# Altium schematic symbol library Expander.SCHLIB: 6 symbols
Pins are listed as number, name and electrical type; pins without a type are passive.

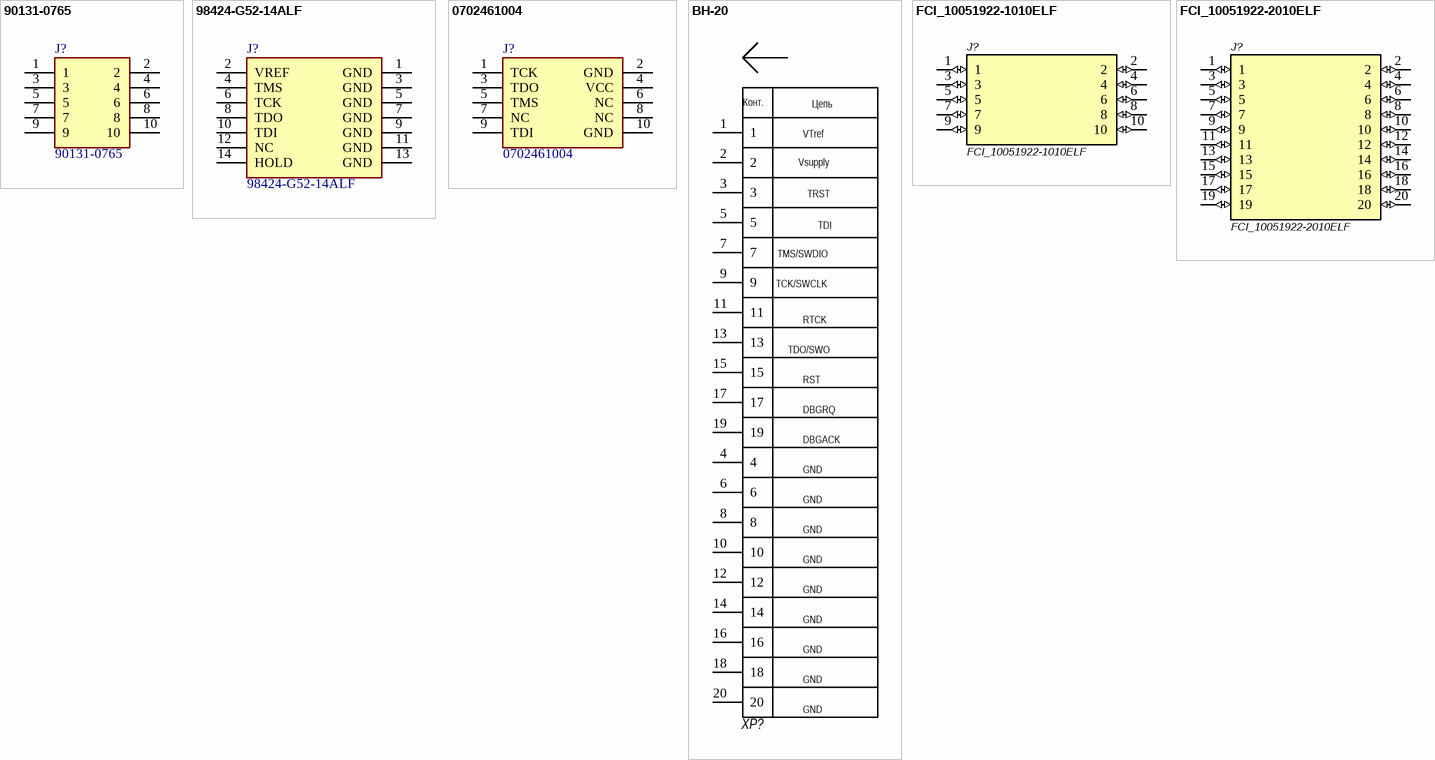
[diagram p0: symbols 90131-0765 to FCI_10051922-2010ELF]

## 90131-0765
designator J?
Connector; Manufacturer_Name: Molex; Allied_Number: 70372850; Datasheet Link: http://www.molex.com/molex/products/datasheet.jsp?part=active/0901310765_PCB_HEADERS.xml; Height: 5.6mm; Manufacturer_Part_Number: 90131-0765; Mouser Part Number: 538-90131-0765; Mouser Price/Stock: https://www.mouser.com/Search/Refine.aspx?Keyword=538-90131-0765; RS Part Number: 3606471P; RS Price/Stock: http://uk.rs-online.com/web/p/products/3606471P; Allied Price/Stock: https://www.alliedelec.com/molex-incorporated-90131-0765/70372850/
footprint HDRV10W90P254_2X5_1260X500X560P
pins: 1, 2, 3, 4, 5, 6, 7, 8, 9, 10

## 98424-G52-14ALF
designator J?
Connector; Manufacturer_Name: Amphenol; Allied_Number: 70236917; Datasheet Link: https://cdn.amphenol-icc.com/media/wysiwyg/files/drawing/98424.pdf; Height: 7mm; Manufacturer_Part_Number: 98424-G52-14ALF; Mouser Part Number: 649-98424-G52-14ALF; Mouser Price/Stock: https://www.mouser.com/Search/Refine.aspx?Keyword=649-98424-G52-14ALF; RS Part Number: 1822960; RS Price/Stock: http://uk.rs-online.com/web/p/products/1822960; Allied Price/Stock: https://www.alliedelec.com/amphenolicc-98424-g52-14alf/70236917/
footprint 98424G5214ALF
pins: 1 GND, 2 VREF, 3 GND, 4 TMS, 5 GND, 6 TCK, 7 GND, 8 TDO, 9 GND, 10 TDI, 11 GND, 12 NC, 13 GND, 14 HOLD

## 0702461004
designator J?
Connector; Manufacturer_Name: Molex; Description: 2.54mm Pitch C-Grid Header; Datasheet Link: http://www.molex.com/pdm_docs/sd/702461004_sd.pdf; Height: 9.47mm; Manufacturer_Part_Number: 0702461004; Mouser Part Number: N/A; Mouser Price/Stock: https://www.mouser.com/Search/Refine.aspx?Keyword=N%2FA
footprint SHDR10W99P254_2X5_2032X889X947P
pins: 1 TCK, 2 GND, 3 TDO, 4 VCC, 5 TMS, 6 NC, 7 NC, 8 NC, 9 TDI, 10 GND

## BH-20
designator XP?  (value not drawn)
JTAG; Группа: Разъём; Производитель: *; Аналоги: *; Корпус: *; Value: BH-20
footprint BH-20
pins: 1, 2, 3, 4, 5, 6, 7, 8, 9, 10, 11, 12, 13, 14, 15, 16, 17, 18, 19, 20
text: Конт.; Цепь; VTref; Vsupply; TRST; TDI; TMS/SWDIO; TCK/SWCLK; RTCK; TDO/SWO; RST; DBGRQ; DBGACK; GND

## FCI_10051922-1010ELF
designator J?
0.50mm FFC/FPC Connectors 10CKT RA SMT ZIF CON BOTTOM CONTACT; Manufacturer 1: Amphenol FCI; Actuator Material: Nylon,Glass,Polyamide; Number of Contacts: 10; Contact Resistance: 30mR; Current Rating: 500mA; Voltage Rating: 50V; Insulation Resistance: 100MR; Gender: Female; Pitch: 0.5mm; Supplier 1: Digi-Key; Manufacturer Part Number 1: 10051922-1010ELF; Stock 1: 3851; Pricing 1: 1=0,85000, 10=0,74400, 25=0,70080, 50=0,67140, 100=0,64230, 250=0,58388, 500=0,52550, 1000=0,46710 (USD); RoHS: Yes; Mount: Surface Mount; Contact Material: Copper Alloy,Bronze; Contact Plating: Gold; Housing Color: Natural; Housing Material: Polymer; Min Operating Temperature: -55°C; Max Operating Temperature: 85°C; Number of Rows: 1; Termination: Solder; Orientation: Right Angle; Packaging: Tape and Reel; Package Quantity: 4500; Number of Positions: 10; Contact Location: Bottom; Max Voltage Rating (AC): 50V; Max Voltage Rating (DC): 50V; Length: 7.5mm; Depth: 3.4mm; Width: 3.4mm; Radiation Hardening: No; REACH SVHC: No SVHC; Lead Free: Lead Free; Flammability Rating: UL94 V-0; ComponentLink1URL: https://datasheet.ciiva.com/1437/10051922-1437495.pdf?src-supplier=Element14; ComponentLink1Description: https://datasheet.ciiva.com/1437/10051922-1437495.pdf?src-supplier=Element14; ComponentLink2URL: https://datasheet.ciiva.com/15176/getdatasheetpartid-131484-15176375.pdf?src-supplier=Verical; ComponentLink2Description: https://datasheet.ciiva.com/15176/getdatasheetpartid-131484-15176375.pdf?src-supplier=Verical; ComponentLink3URL: https://datasheet.ciiva.com/670/10051922-670057.pdf?src-supplier=Digi-Key; ComponentLink3Description: https://datasheet.ciiva.com/670/10051922-670057.pdf?src-supplier=Digi-Key; ComponentLink4URL: https://datasheet.ciiva.com/670/10051922-670058.pdf?src-supplier=Digi-Key; ComponentLink4Description: https://datasheet.ciiva.com/670/10051922-670058.pdf?src-supplier=Digi-Key; ComponentLink5URL: https://datasheet.ciiva.com/5136/fcicmd-catcustomerdrawingproductname-10051922-1010elf-5136554.pdf?src-supplier=Mouser; ComponentLink5Description: https://datasheet.ciiva.com/5136/fcicmd-catcustomerdrawingproductname-10051922-1010elf-5136554.pdf?src-supplier=Mouser; ComponentLink6URL: https://datasheet.ciiva.com/670/10051922-670059.pdf?src-supplier=Digi-Key; ComponentLink6Description: https://datasheet.ciiva.com/670/10051922-670059.pdf?src-supplier=Digi-Key; ComponentLink7URL: https://datasheet.ciiva.com/10367/10051922-10367679.pdf?src-supplier=Avnet; ComponentLink7Description: https://datasheet.ciiva.com/10367/10051922-10367679.pdf?src-supplier=Avnet; Supplier 2: Mouser; Manufacturer 2: Amphenol FCI; Manufacturer Part Number 2: 10051922-1010ELF; Stock 2: 5616; Pricing 2: 1=0,85000, 10=0,67200, 50=0,67200, 100=0,64300, 250=0,58400, 500=0,52600, 1000=0,46800, 2500=0,40300, 4500=0,38500, 9000=0,34600, 10000=0,34600 (USD); Supplier Part Number 1: 609-1234-1-ND; Supplier Part Number 2: 649-10051922-1010ELF
footprint *FCI_10051922-1010ELF (Footprint not found)
pins: 1 (io), 2 (io), 3 (io), 4 (io), 5 (io), 6 (io), 7 (io), 8 (io), 9 (io), 10 (io)

## FCI_10051922-2010ELF
designator J?
0.50mm FFC/FPC Connectors 20CKT RA SMT ZIF CON BOTTOM CONTACT; Manufacturer 1: Amphenol FCI; Actuator Material: Nylon,Glass,Polyamide; Number of Contacts: 20; Contact Resistance: 30mR; Current Rating: 500mA; Voltage Rating: 50V; Insulation Resistance: 100MR; Pitch: 0.5mm; Supplier 1: Digi-Key; Manufacturer Part Number 1: 10051922-2010ELF; Stock 1: 913; Pricing 1: 1=0,73000, 10=0,64500, 25=0,60760, 50=0,58220, 100=0,55680, 250=0,50624, 500=0,45560, 1000=0,40498 (USD); RoHS: Yes; Mount: Surface Mount; Contact Material: Copper Alloy,Bronze,Copper; Contact Plating: Gold; Housing Color: Natural; Housing Material: Polymer; Min Operating Temperature: -55°C; Max Operating Temperature: 85°C; Number of Rows: 1; Termination: Solder; Orientation: Right Angle; Packaging: Tape and Reel; Package Quantity: 4500; Number of Positions: 20; Contact Location: Bottom; Max Voltage Rating (AC): 50V; Max Voltage Rating (DC): 50V; Length: 12.5mm; Depth: 3.4mm; Width: 3.4mm; Radiation Hardening: No; REACH SVHC: No SVHC; Lead Free: Lead Free; Flammability Rating: UL94 V-0; ComponentLink1URL: https://datasheet.ciiva.com/673/10051922-673159.pdf?src-supplier=Digi-Key; ComponentLink1Description: https://datasheet.ciiva.com/673/10051922-673159.pdf?src-supplier=Digi-Key; ComponentLink2URL: https://datasheet.ciiva.com/1437/10051922-1437497.pdf?src-supplier=Element14; ComponentLink2Description: https://datasheet.ciiva.com/1437/10051922-1437497.pdf?src-supplier=Element14; ComponentLink3URL: https://datasheet.ciiva.com/16658/10051922-16658794.pdf?src-supplier=Avnet+Europe; ComponentLink3Description: https://datasheet.ciiva.com/16658/10051922-16658794.pdf?src-supplier=Avnet+Europe; ComponentLink4URL: https://datasheet.ciiva.com/673/10051922-673158.pdf?src-supplier=Digi-Key; ComponentLink4Description: https://datasheet.ciiva.com/673/10051922-673158.pdf?src-supplier=Digi-Key; Supplier 2: Mouser; Manufacturer 2: Amphenol FCI; Manufacturer Part Number 2: 10051922-2010ELF; Stock 2: 2006; Pricing 2: 1=0,73000, 10=0,58300, 50=0,58300, 100=0,50700, 500=0,45600, 1000=0,40500, 2500=0,34600, 9000=0,30700, 10000=0,30700, 22500=0,30000 (USD); Supplier Part Number 1: 609-1240-1-ND; Supplier Part Number 2: 649-10051922-2010ELF
footprint *FCI_10051922-2010ELF
pins: 1 (io), 2 (io), 3 (io), 4 (io), 5 (io), 6 (io), 7 (io), 8 (io), 9 (io), 10 (io), 11 (io), 12 (io), 13 (io), 14 (io), 15 (io), 16 (io), 17 (io), 18 (io), 19 (io), 20 (io)